# Altium integrated library IRF3205PBF.IntLib: 1 symbol
Pins are listed as number, name and electrical type; pins without a type are passive.

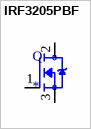
[diagram p0: symbol IRF3205PBF]

## IRF3205PBF
designator Q
N-Channel 55V 110A _Tc_ 200W _Tc_ Through Hole TO-220AB; MP: IRF3205PBF; MF: Infineon Technologies; Package: TO-220 International Rectifier; Value: *; Availability: Unavailable; Price: None; SnapEDA_Link: https://www.snapeda.com/parts/IRF3205PBF/Infineon%20Technologies/view-part/98571/?ref=snap
footprint TO254P1067X483X3124-3P
pins: 1 G, 2 D, 3 S